# EAGLE library part LTM4609MPV#PBF (library gwu_mpnl_ucat_v8)
Per LTC Datasheet 4609fe LTM4609 (c) Samudra Haque, N3RDX, 2/23/2014
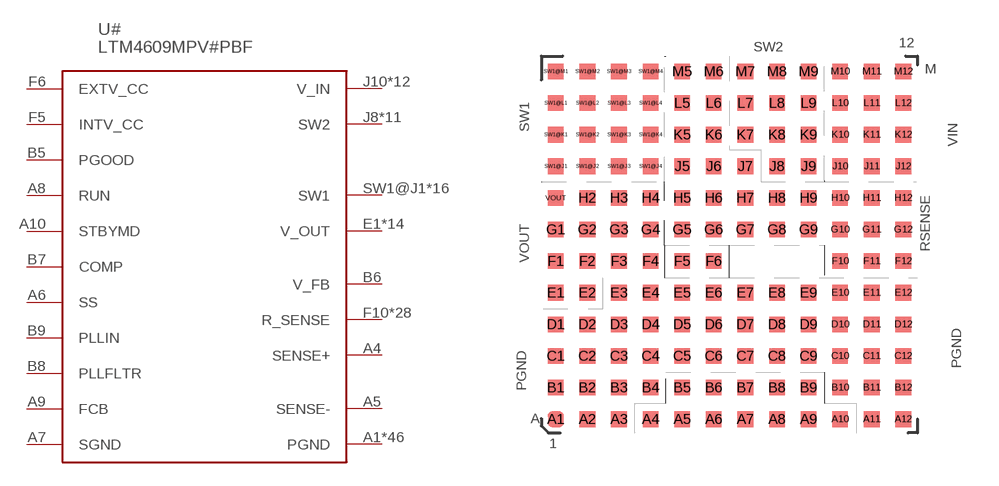
[diagram p2: symbol with the pads of LGA-141-LTC-05-08-1840-B; footprint LGA-141-LTC-05-08-1840-B]

Designator prefix U#

## LTM4609MPV#PBFROHS/HITEMP  [LGA-141-LTC-05-08-1840-B]
A1  PGND
A2  PGND
A3  PGND
A4  SENSE+
A5  SENSE-
A6  SS
A7  SGND
A8  RUN
A9  FCB
A10  STBYMD
A11  PGND
A12  PGND
B1  PGND
B2  PGND
B3  PGND
B4  PGND
B5  PGOOD
B6  V_FB
B7  COMP
B8  PLLFLTR
B9  PLLIN
B10  PGND
B11  PGND
B12  PGND
C1  PGND
C2  PGND
C3  PGND
C4  PGND
C5  PGND
C6  PGND
C7  PGND
C8  PGND
C9  PGND
C10  PGND
C11  PGND
C12  PGND
D1  PGND
D2  PGND
D3  PGND
D4  PGND
D5  PGND
D6  PGND
D7  PGND
D8  PGND
D9  PGND
D10  PGND
D11  PGND
D12  PGND
E1  V_OUT
E2  V_OUT
E3  PGND
E4  PGND
E5  PGND
E6  PGND
E7  PGND
E8  PGND
E9  PGND
E10  PGND
E11  PGND
E12  PGND
F1  V_OUT
F2  V_OUT
F3  V_OUT
F4  V_OUT
F5  INTV_CC
F6  EXTV_CC
F10  R_SENSE
F11  R_SENSE
F12  R_SENSE
G1  V_OUT
G2  V_OUT
G3  V_OUT
G4  V_OUT
G5  R_SENSE
G6  R_SENSE
G7  R_SENSE
G8  R_SENSE
G9  R_SENSE
G10  R_SENSE
G11  R_SENSE
G12  R_SENSE
H2  V_OUT
H3  V_OUT
H4  V_OUT
H5  R_SENSE
H6  R_SENSE
H7  R_SENSE
H8  R_SENSE
H9  R_SENSE
H10  R_SENSE
H11  R_SENSE
H12  R_SENSE
J5  R_SENSE
J6  R_SENSE
J7  R_SENSE
J8  SW2
J9  SW2
J10  V_IN
J11  V_IN
J12  V_IN
K5  R_SENSE
K6  R_SENSE
K7  SW2
K8  SW2
K9  SW2
K10  V_IN
K11  V_IN
K12  V_IN
L5  R_SENSE
L6  R_SENSE
L7  SW2
L8  SW2
L9  SW2
L10  V_IN
L11  V_IN
L12  V_IN
M5  R_SENSE
M6  R_SENSE
M7  SW2
M8  SW2
M9  SW2
M10  V_IN
M11  V_IN
M12  V_IN
SW1@J1  SW1
SW1@J2  SW1
SW1@J3  SW1
SW1@J4  SW1
SW1@K1  SW1
SW1@K2  SW1
SW1@K3  SW1
SW1@K4  SW1
SW1@L1  SW1
SW1@L2  SW1
SW1@L3  SW1
SW1@L4  SW1
SW1@M1  SW1
SW1@M2  SW1
SW1@M3  SW1
SW1@M4  SW1
VOUT  V_OUT

## Footprint LGA-141-LTC-05-08-1840-B (pad centres in mm)
smd 0.63 x 0.63: A1 -7.116,-10.192; A2 -5.846,-10.192; A3 -4.576,-10.192; A4 -3.306,-10.192; A5 -2.036,-10.192; A6 -0.766,-10.192; A7 0.504,-10.192; A8 1.774,-10.192; A9 3.044,-10.192; A10 4.314,-10.192; A11 5.584,-10.192; A12 6.854,-10.192; B1 -7.116,-8.922; B2 -5.846,-8.922; B3 -4.576,-8.922; B4 -3.306,-8.922; B5 -2.036,-8.922; B6 -0.766,-8.922; B7 0.504,-8.922; B8 1.774,-8.922; B9 3.044,-8.922; B10 4.314,-8.922; B11 5.584,-8.922; B12 6.854,-8.922; C1 -7.116,-7.652; C2 -5.846,-7.652; C3 -4.576,-7.652; C4 -3.306,-7.652; C5 -2.036,-7.652; C6 -0.766,-7.652; C7 0.504,-7.652; C8 1.774,-7.652; C9 3.044,-7.652; C10 4.314,-7.652; C11 5.584,-7.652; C12 6.854,-7.652; D1 -7.116,-6.382; D2 -5.846,-6.382; D3 -4.576,-6.382; D4 -3.306,-6.382; D5 -2.036,-6.382; D6 -0.766,-6.382; D7 0.504,-6.382; D8 1.774,-6.382; D9 3.044,-6.382; D10 4.314,-6.382; D11 5.584,-6.382; D12 6.854,-6.382; E1 -7.116,-5.112; E2 -5.846,-5.112; E3 -4.576,-5.112; E4 -3.306,-5.112; E5 -2.036,-5.112; E6 -0.766,-5.112; E7 0.504,-5.112; E8 1.774,-5.112; E9 3.044,-5.112; E10 4.314,-5.112; E11 5.584,-5.112; E12 6.854,-5.112; F1 -7.116,-3.842; F2 -5.846,-3.842; F3 -4.576,-3.842; F4 -3.306,-3.842; F5 -2.036,-3.842; F6 -0.766,-3.842; F10 4.314,-3.842; F11 5.584,-3.842; F12 6.854,-3.842; G1 -7.116,-2.572; G2 -5.846,-2.572; G3 -4.576,-2.572; G4 -3.306,-2.572; G5 -2.036,-2.572; G6 -0.766,-2.572; G7 0.504,-2.572; G8 1.774,-2.572; G9 3.044,-2.572; G10 4.314,-2.572; G11 5.584,-2.572; G12 6.854,-2.572; H2 -5.846,-1.302; H3 -4.576,-1.302; H4 -3.306,-1.302; H5 -2.036,-1.302; H6 -0.766,-1.302; H7 0.504,-1.302; H8 1.774,-1.302; H9 3.044,-1.302; H10 4.314,-1.302; H11 5.584,-1.302; H12 6.854,-1.302; J5 -2.036,-0.032; J6 -0.766,-0.032; J7 0.504,-0.032; J8 1.774,-0.032; J9 3.044,-0.032; J10 4.314,-0.032; J11 5.584,-0.032; J12 6.854,-0.032; K5 -2.036,1.238; K6 -0.766,1.238; K7 0.504,1.238; K8 1.774,1.238; K9 3.044,1.238; K10 4.314,1.238; K11 5.584,1.238; K12 6.854,1.238; L5 -2.036,2.508; L6 -0.766,2.508; L7 0.504,2.508; L8 1.774,2.508; L9 3.044,2.508; L10 4.314,2.508; L11 5.584,2.508; L12 6.854,2.508; M5 -2.036,3.778; M6 -0.766,3.778; M7 0.504,3.778; M8 1.774,3.778; M9 3.044,3.778; M10 4.314,3.778; M11 5.584,3.778; M12 6.854,3.778; SW1@J1 -7.116,-0.032; SW1@J2 -5.846,-0.032; SW1@J3 -4.576,-0.032; SW1@J4 -3.306,-0.032; SW1@K1 -7.116,1.238; SW1@K2 -5.846,1.238; SW1@K3 -4.576,1.238; SW1@K4 -3.306,1.238; SW1@L1 -7.116,2.508; SW1@L2 -5.846,2.508; SW1@L3 -4.576,2.508; SW1@L4 -3.306,2.508; SW1@M1 -7.116,3.778; SW1@M2 -5.846,3.778; SW1@M3 -4.576,3.778; SW1@M4 -3.306,3.778; VOUT -7.116,-1.302